# Altium footprint library Connectors.PcbLib: 3 footprints
Each footprint in its own frame and in the unit in brackets; x right, y up, seen from the top. Pads: shape width x height; smd on the part's side, far side on the other; paste and mask are expansions set on the pad; w line width, h text height; cw(c..) or ccw(c..) is an arc to the next point about the centre after c.
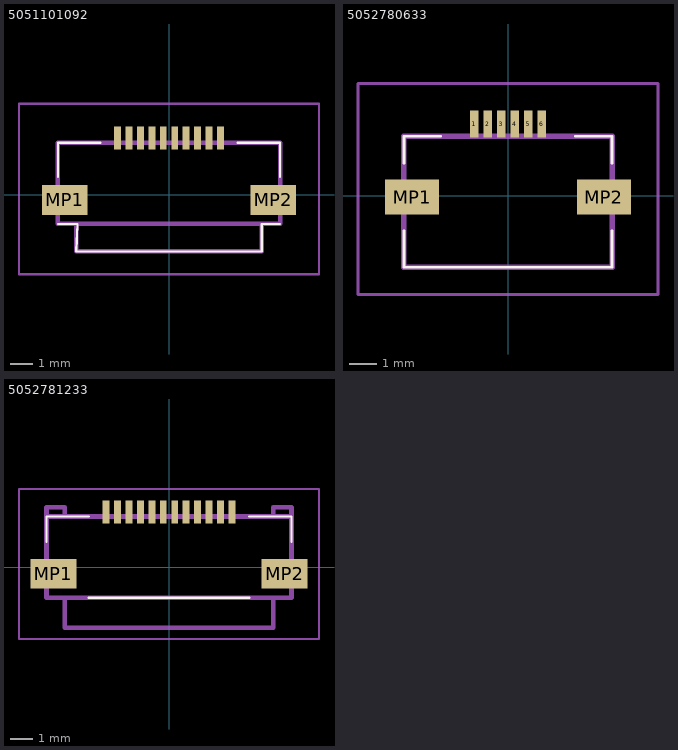
[diagram p0: the footprints below, top view; thin cyan lines are the x and y axes]

## 5051101092 [mm]
pads (12):
  rect 0.3x1 smd: 1(-2.25,2.475) 2(-1.75,2.475) 3(-1.25,2.475) 4(-0.75,2.475) 5(-0.25,2.475) 6(0.25,2.475) 7(0.75,2.475) 8(1.25,2.475) 9(1.75,2.475) 10(2.25,2.475)
  rect 2x1.3 smd: MP1(-4.55,-0.225) MP2(4.55,-0.225)
Top Overlay:
  lines w0.1: -4.85,-1.275 -4,-1.275 -4.05,-2.475 4.05,-2.475 4.05,-1.275 4.85,-1.275 ; -4.85,0.775 -4.85,2.275 -3,2.275 ; 3,2.275 4.85,2.275 4.85,0.775
Mechanical 13:
  lines w0.2: -4.05,-1.275 -4.05,-2.475 4.05,-2.475 4.05,-1.275 ; -4.85,-1.275 4.85,-1.275 4.85,2.275 -4.85,2.275 -4.85,-1.275
Mechanical 15:
  lines w0.1: -6.55,-3.475 6.55,-3.475 6.55,3.975 -6.55,3.975 -6.55,-3.475
3D body "505110-1092.stp": height 1.9, standoff 0, extent -5.25,-2.4 5.25,2.9

## 5052780633 [mm]
pads (8):
  rect 0.3x1 smd: 1(-1.25,2.65) 2(-0.75,2.65) 3(-0.25,2.65) 4(0.25,2.65) 5(0.75,2.65) 6(1.25,2.65)
  rect 2x1.3 smd: MP1(-3.55,-0.05) MP2(3.55,-0.05)
Top Overlay:
  lines w0.1: -3.85,-1.3 -3.85,-2.65 3.85,-2.65 3.85,-1.3 ; -3.85,1.2 -3.85,2.2 -2.5,2.2 ; 2.5,2.2 3.85,2.2 3.85,1.2
Mechanical 13:
  lines w0.2: -3.85,-2.65 -3.85,2.2 3.85,2.2 3.85,-2.65 -3.85,-2.65
Mechanical 15:
  lines w0.1: -5.55,-3.65 -5.55,4.15 5.55,4.15 5.55,-3.65 -5.55,-3.65
3D body "505278-0633.stp": height 1.9, standoff 0, extent -4.25,-2.4 4.25,2.9

## 5052781233 [mm]
pads (14):
  rect 0.3x1 smd: 1(-2.75,2.425) 2(-2.25,2.425) 3(-1.75,2.425) 4(-1.25,2.425) 5(-0.75,2.425) 6(-0.25,2.425) 7(0.25,2.425) 8(0.75,2.425) 9(1.25,2.425) 10(1.75,2.425) 11(2.25,2.425) 12(2.75,2.425)
  rect 2x1.3 smd: MP1(-5.05,-0.275) MP2(5.05,-0.275)
Top Overlay:
  lines w0.1: -5.35,1.125 -5.35,2.225 -3.5,2.225 ; -3.5,-1.325 3.5,-1.325 ; 3.5,2.225 5.35,2.225 5.35,1.125
Mechanical 13:
  lines w0.2: -5.35,2.225 5.35,2.225 ; -5.35,2.225 -5.35,-1.325 5.35,-1.325 5.35,2.225 ; -5.35,2.225 -4.55,2.225 -4.55,2.625 -5.35,2.625 -5.35,2.225 ; 5.35,2.225 4.55,2.225 4.55,2.625 5.35,2.625 5.35,2.225 ; -4.55,-2.625 4.55,-2.625 4.55,-1.325 -4.55,-1.325 -4.55,-2.625
Mechanical 15:
  lines w0.1: -6.55,-3.125 6.55,-3.125 6.55,3.425 -6.55,3.425 -6.55,-3.125
3D body "505278-1233.stp": height 1.88, standoff -0.02, extent -5.75,-2.65 5.75,2.65